# Altium footprint library CON-PIC-ICSP.PcbLib: 1 footprints
Each footprint in its own frame and in the unit in brackets; x right, y up, seen from the top. Pads: shape width x height; smd on the part's side, far side on the other; paste and mask are expansions set on the pad; w line width, h text height; cw(c..) or ccw(c..) is an arc to the next point about the centre after c.
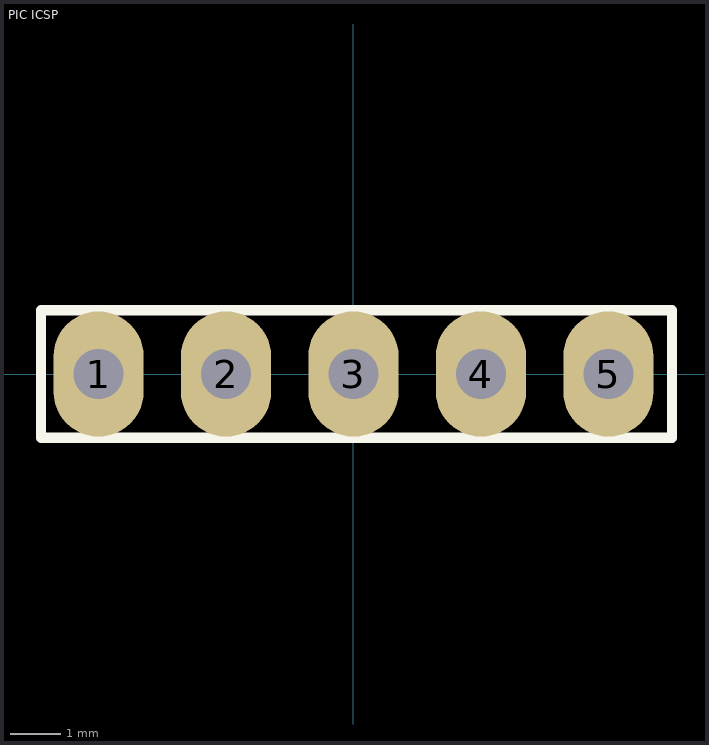
[diagram p0: the footprint, top view; thin cyan lines are the x and y axes]

## PIC ICSP [mm] "In-Serial Circuit Programmer Header"
pads (5):
  oval 1.8x2.5 hole 1: 1(-5.08,0) 2(-2.54,0) 3(0,0) 4(2.54,0) 5(5.08,0)
Top Overlay:
  lines w0.2: -6.223,-1.27 6.35,-1.27 6.35,1.27 -6.223,1.27 -6.223,-1.27
3D body "CON-PIC-ICSP.step": height 9.54, standoff -3, extent -6.35,-1.27 6.35,1.27